# EAGLE library part ALZ5 (library Panasonic Relay)
LZ - 1 Form A - Single side stable Data sheet <https://www.panasonic-electric-works.com/eu/download.htm?id=55827> Parameters Max. switching voltage: 440 V AC Max. switching current: 16 A Operational function: Single side stable Contact arrangement: 1 CO / 1 NO Applications Household electrical appliances: TV, CATV, Audio equipment, Microwave ovens, and Heaters, etc. Office equipment: Copy machines, Packaged air conditioners, and Vending machines Industrial equipment: Machine tools, Robots, and Temperature controllers Options Available with coil insulation class B or F.
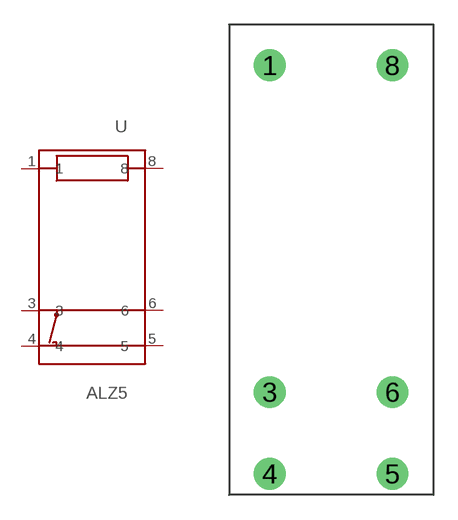
[diagram p65: symbol with the pads of LZ_1_FORM_A; footprint LZ_1_FORM_A]

Designator prefix -

## ALZ51B05 (U_COIL: 5V DC), ALZ51B09 (U_COIL: 9V DC), ALZ51B12 (U_COIL: 12V DC), ALZ51B18 (U_COIL: 18V DC), ALZ51B24 (U_COIL: 24V DC), ALZ51B48 (U_COIL: 48V DC), ALZ51F05 (U_COIL: 5V DC), ALZ51F09 (U_COIL: 9V DC), ALZ51F12 (U_COIL: 12V DC), ALZ51F18 (U_COIL: 18V DC), ALZ51F24 (U_COIL: 24V DC), ALZ51F48 (U_COIL: 48V DC), ALZ52B05 (U_COIL: 5V DC), ALZ52B09 (U_COIL: 9V DC), ALZ52B12 (U_COIL: 12V DC), ALZ52B18 (U_COIL: 18V DC), ALZ52B24 (U_COIL: 24V DC), ALZ52B48 (U_COIL: 48V DC), ALZ52F05 (U_COIL: 5V DC), ALZ52F09 (U_COIL: 9V DC), ALZ52F12 (U_COIL: 12V DC), ALZ52F18 (U_COIL: 18V DC), ALZ52F24 (U_COIL: 24V DC), ALZ52F48 (U_COIL: 48V DC)  [LZ_1_FORM_A]
1  1
3  3
4  4
5  5
6  6
8  8

## Footprint LZ_1_FORM_A (pad centres in mm)
drill 1.3: 1 -3.75,11.9; 3 -3.75,-8.1; 4 -3.75,-13.1; 5 3.75,-13.1; 6 3.75,-8.1; 8 3.75,11.9